# Altium footprint library SM_DIODE_SlimSMA.PcbLib: 1 footprints
Each footprint in its own frame and in the unit in brackets; x right, y up, seen from the top. Pads: shape width x height; smd on the part's side, far side on the other; paste and mask are expansions set on the pad; w line width, h text height; cw(c..) or ccw(c..) is an arc to the next point about the centre after c.
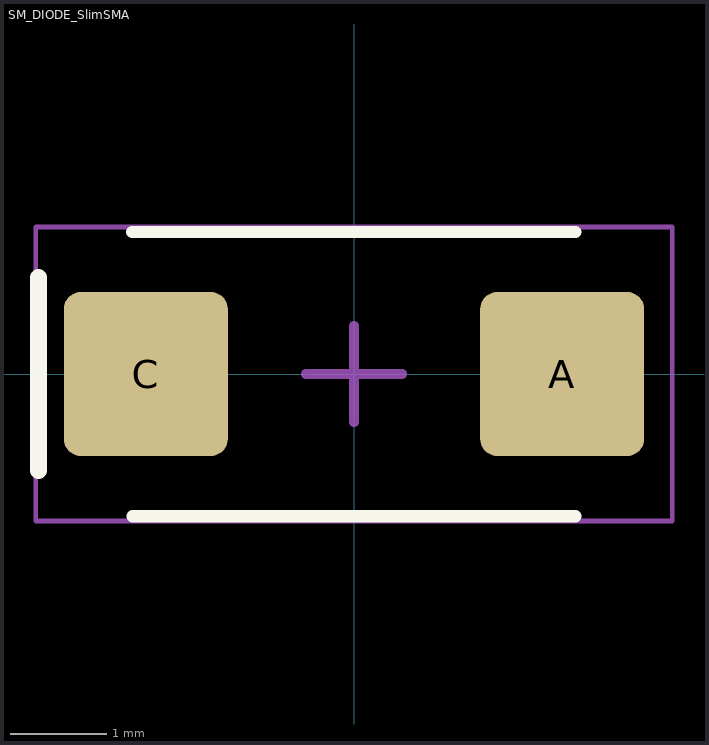
[diagram p0: the footprint, top view; thin cyan lines are the x and y axes]

## SM_DIODE_SlimSMA [mm] "4.35mm x 2.7mm x 1mm"
height 1
pads (2):
  rrect20% 1.7x1.7 smd: A(2.16,0) C(-2.16,0)
Top Overlay:
  lines w0.127: -2.3,-1.475 2.3,-1.475 ; -2.3,1.475 2.3,1.475
  lines w0.178: -3.275,-1 -3.275,1
Mechanical 15:
  lines w0.05: -3.302,-1.524 -3.302,1.524 3.302,1.524 3.302,-1.524 -3.302,-1.524
  lines w0.1: -0.5,0 0.5,0 ; 0,-0.5 0,0.5
3D body: height 1, standoff 1, extent -0.737,-0.625 0.738,0.625
3D body: height 0.3, standoff 0, extent 2.175,-0.725 2.675,0.725
3D body: height 0.3, standoff 0, extent -2.675,-0.725 -2.175,0.725
3D body: height 1, standoff 0, extent -2.175,-1.35 2.175,1.35